# Altium schematic symbol library ADF4351BCPZ-RL7.Schlib: 1 symbol
Pins are listed as number, name and electrical type; pins without a type are passive.

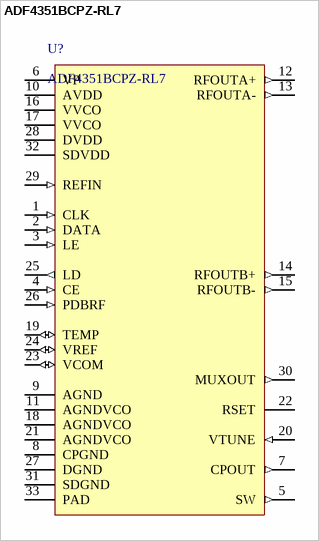
[diagram p0: symbol ADF4351BCPZ-RL7]

## ADF4351BCPZ-RL7
designator U?
Fanout Distribution, Fractional N, Integer N, Clock/Frequency Synthesizer (RF) IC 4.4GHz 1 32-VFQFN Exposed Pad, CSP
pins: 1 CLK (in), 2 DATA (in), 3 LE (in), 4 CE (in), 5 SW (out), 6 VP (power), 7 CPOUT (out), 8 CPGND (power), 9 AGND (power), 10 AVDD (power), 11 AGNDVCO (power), 12 RFOUTA+ (out), 13 RFOUTA- (out), 14 RFOUTB+ (out), 15 RFOUTB- (out), 16 VVCO (power), 17 VVCO (power), 18 AGNDVCO (power), 19 TEMP (io), 20 VTUNE (in), 21 AGNDVCO (power), 22 RSET, 23 VCOM (io), 24 VREF (io), 25 LD (out), 26 PDBRF (in), 27 DGND (power), 28 DVDD (power), 29 REFIN (in), 30 MUXOUT (out), 31 SDGND (power), 32 SDVDD (power), 33 PAD (power)